# Altium schematic symbol library C0603C104J1RACAUTO.SchLib: 1 symbol
Pins are listed as number, name and electrical type; pins without a type are passive.

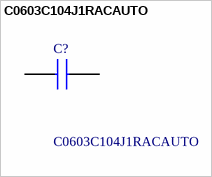
[diagram p0: symbol C0603C104J1RACAUTO]

## C0603C104J1RACAUTO
designator C?
SMD Auto X7R, Ceramic, 0.1 uF, 5%, 100 VDC, X7R, SMD, MLCC, Temperature Stable, Automotive Grade, 0603; Manufacturer_Name: KEMET; Geometry.Height: 0.95mm; Mouser Part Number: 80-C0603C104J1RAUTO; Mouser Price/Stock: https://www.mouser.co.uk/ProductDetail/KEMET/C0603C104J1RACAUTO?qs=ulEaXIWI0c%252BBFWKfPovg5A%3D%3D; Manufacturer_Part_Number: C0603C104J1RACAUTO; Datasheet Link: https://www.kemet.com/specsheet/C0603C104J1RACAUTO
footprint CAPC1608X95N
pins: 1, 2